# Altium schematic symbol library display.SchLib: 8 symbols
Pins are listed as number, name and electrical type; pins without a type are passive.

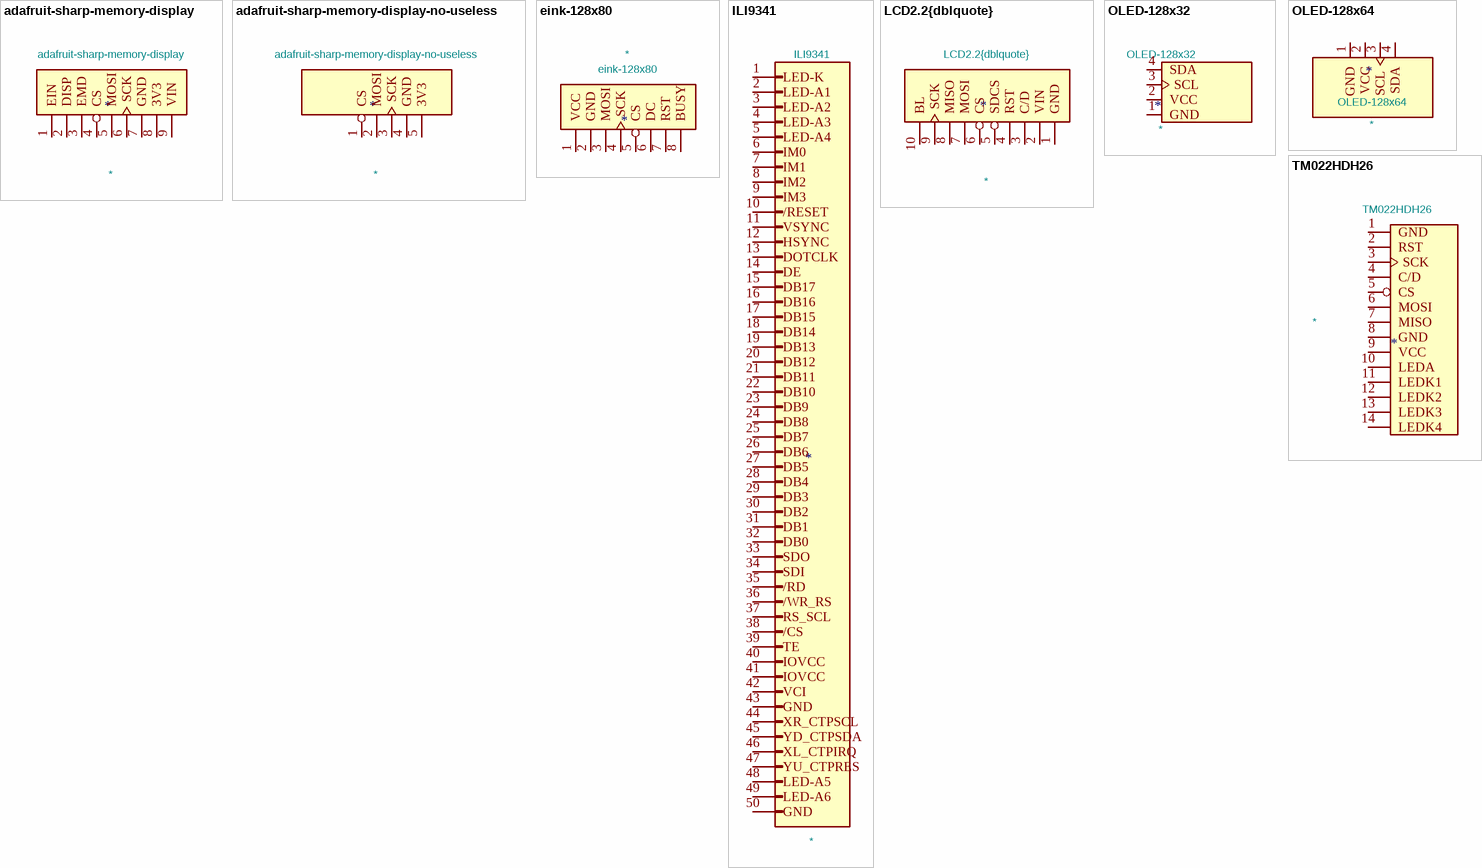
[diagram p0: symbols adafruit-sharp-memory-display to TM022HDH26]

## adafruit-sharp-memory-display
designator *  value adafruit-sharp-memory-display
Footprint: display:adafruit-sharp-memory-display-1.3in
footprint adafruit-sharp-memory-display-1.3in
pins: 1 EIN, 2 DISP, 3 EMD, 4 CS, 5 MOSI, 6 SCK, 7 GND, 8 3V3, 9 VIN

## adafruit-sharp-memory-display-no-useless
designator *  value adafruit-sharp-memory-display-no-useless
Footprint: display:adafruit-sharp-memory-display-1.3in-no-mounting-no-useless
footprint adafruit-sharp-memory-display-1.3in-no-mounting-no-useless
pins: 1 CS, 2 MOSI, 3 SCK, 4 GND, 5 3V3

## eink-128x80
designator *  value eink-128x80
Footprint: Connector_PinHeader_2.54mm:PinHeader_1x08_P2.54mm_Vertical
footprint PinHeader_1x08_P2.54mm_Vertical
pins: 1 VCC, 2 GND, 3 MOSI, 4 SCK, 5 CS, 6 DC, 7 RST, 8 BUSY

## ILI9341
designator *  value ILI9341
pins: 1 LED-K, 2 LED-A1, 3 LED-A2, 4 LED-A3, 5 LED-A4, 6 IM0, 7 IM1, 8 IM2, 9 IM3, 10 /RESET, 11 VSYNC, 12 HSYNC, 13 DOTCLK, 14 DE, 15 DB17, 16 DB16, 17 DB15, 18 DB14, 19 DB13, 20 DB12, 21 DB11, 22 DB10, 23 DB9, 24 DB8, 25 DB7, 26 DB6, 27 DB5, 28 DB4, 29 DB3, 30 DB2, 31 DB1, 32 DB0, 33 SDO, 34 SDI, 35 /RD, 36 /WR_RS, 37 RS_SCL, 38 /CS, 39 TE, 40 IOVCC, 41 IOVCC, 42 VCI, 43 GND, 44 XR_CTPSCL, 45 YD_CTPSDA, 46 XL_CTPIRQ, 47 YU_CTPRES, 48 LED-A5, 49 LED-A6, 50 GND

## LCD2.2{dblquote}
designator *  value LCD2.2{dblquote}
pins: 1 GND, 2 VIN, 3 C/D, 4 RST, 5 SDCS, 6 CS, 7 MOSI, 8 MISO, 9 SCK, 10 BL

## OLED-128x32
designator *  value OLED-128x32
Footprint: display:OLED-128x32-cutout
footprint OLED-128x32-cutout
pins: 1 GND, 2 VCC, 3 SCL, 4 SDA

## OLED-128x64
designator *  value OLED-128x64
Footprint: display:OLED-128x64
footprint OLED-128x64
pins: 1 GND, 2 VCC, 3 SCL, 4 SDA

## TM022HDH26
designator *  value TM022HDH26
Footprint: display:TM022HDH26
footprint TM022HDH26
pins: 1 GND, 2 RST, 3 SCK, 4 C/D, 5 CS, 6 MOSI, 7 MISO, 8 GND, 9 VCC, 10 LEDA, 11 LEDK1, 12 LEDK2, 13 LEDK3, 14 LEDK4